# Altium schematic symbol library FCR684216T.SchLib: 1 symbol
Pins are listed as number, name and electrical type; pins without a type are passive.

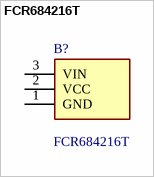
[diagram p0: symbol FCR684216T]

## FCR684216T
designator B?
Fiber Optic Transmitter with Driver 655nm 16Mbps 2.7V ~ 5.5V 10 mA, -20 to 70; Manufacturer_Name: CLIFF ELECTRONIC COMPONENTS; Geometry.Height: 13.2mm; Manufacturer_Part_Number: FCR684216T; Mouser Part Number: *; Mouser Price/Stock: *; Arrow Part Number: *; Arrow Price/Stock: *; Datasheet Link: https://www.cliffuk.co.uk/products/optical/FCR684216T.pdf
footprint FCR684216T
pins: 1 GND, 2 VCC, 3 VIN